# Altium footprint library SIP.PcbLib: 21 footprints (part 2 of 2)
Each footprint in its own frame and in the unit in brackets; x right, y up, seen from the top. Pads: shape width x height; smd on the part's side, far side on the other; paste and mask are expansions set on the pad; w line width, h text height; cw(c..) or ccw(c..) is an arc to the next point about the centre after c.
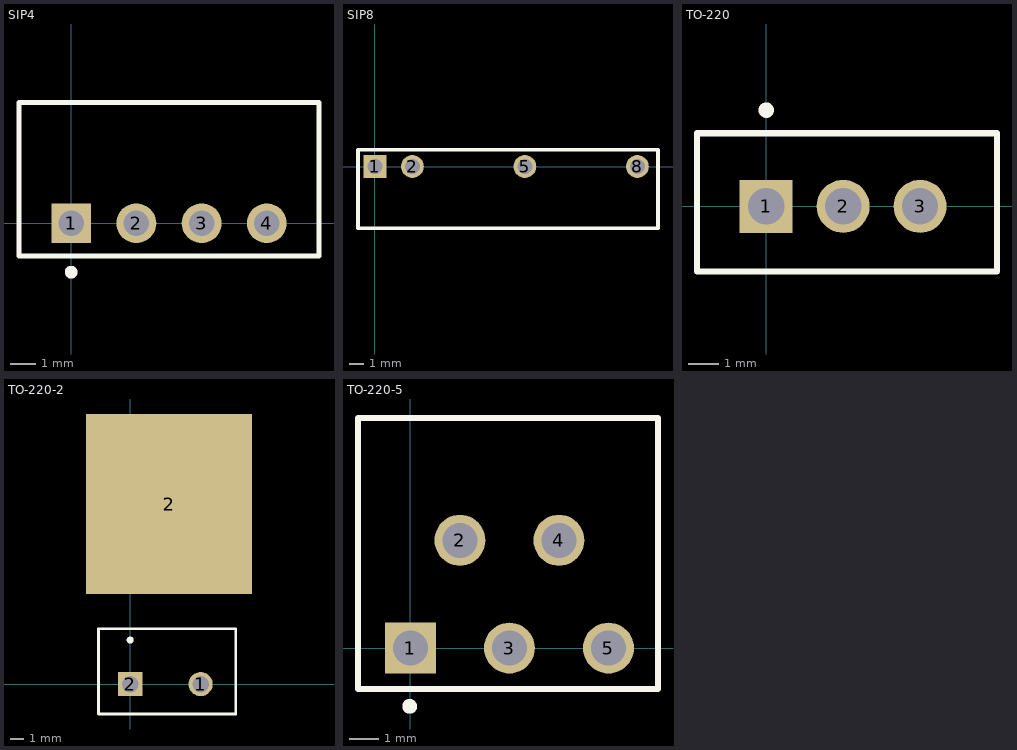
[diagram p1: the footprints below, top view; thin cyan lines are the x and y axes]

## SIP4 [mm]
pads (4):
  rect 1.55x1.55 hole 1: 1(0,0)
  round 1.55 hole 1: 2(2.54,0) 3(5.08,0) 4(7.62,0)
Top Overlay:
  circle w0.25: c0.002,-1.905 r0.125
  lines w0.2: -2.032,-1.27 -2.032,4.699 9.652,4.699 9.652,-1.27 -2.032,-1.27
3D body: height 10.15, standoff -3.05, extent -2.032,-1.301 9.652,4.699

## SIP8 [mm]
pads (4):
  rect 1.55x1.55 hole 1: 1(0,0)
  round 1.55 hole 1: 2(2.54,0) 5(10.16,0) 8(17.78,0)
Top Overlay:
  lines w0.254: -1.143,-4.191 19.177,-4.191 19.177,1.143 -1.143,1.143 -1.143,0.889 -1.143,-4.191
3D body: height 17.7, standoff -3.3, extent -1.133,-4.191 19.167,0.889

## TO-220 [mm]
pads (3):
  rect 1.75x1.75 hole 1.2: 1(0,0)
  round 1.75 hole 1.2: 2(2.54,0) 3(5.08,0)
Top Overlay:
  circle w0.254: c0,3.175 r0.127
  lines w0.2: -2.286,-2.159 -2.286,2.413 7.62,2.413 7.62,-2.159 -2.286,-2.159
3D body: height 18.8, standoff -9.98, extent -2.283,-2.087 7.617,2.413

## TO-220-2 [mm]
pads (3):
  round 1.75 hole 1.2: 1(5.08,0)
  rect 1.75x1.75 hole 1.2: 2(0,0)
  rect 12x13 smd: 2(2.8,13)
Top Overlay:
  circle w0.254: c0,3.175 r0.127
  lines w0.2: -2.286,-2.159 -2.286,4 7.62,4 7.62,-2.159 -2.286,-2.159
3D body: height 4.2, standoff -3, extent -2.48,-0.3 7.68,19.19

## TO-220-5 [mm]
pads (5):
  rect 1.75x1.75 hole 1.2: 1(0,0)
  round 1.75 hole 1.2: 2(1.7,3.7) 3(3.4,0) 4(5.1,3.7) 5(6.8,0)
Top Overlay:
  circle w0.254: c-0.027,-2 r0.127
  lines w0.2: -1.8,-1.4 8.5,-1.4 8.5,7.9 -1.8,7.9 -1.8,-1.4
3D body: height 21.35, standoff -2.64, extent -1.68,-0.283 8.48,7.957